# EAGLE library part 690357101072 (library Wuerth_Elektronik_eiCan_MiniModule_Connectors_v1.2)
WR-MM Male Connector with Polarization, 10 Pins
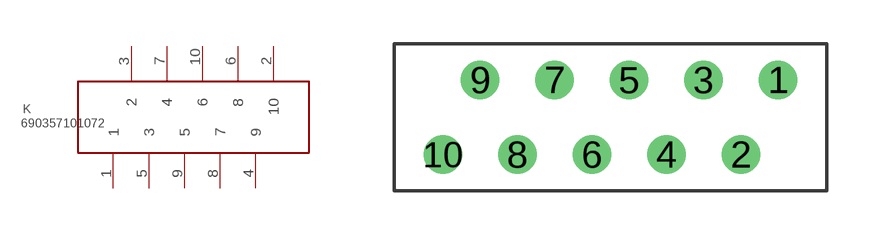
[diagram p56: symbol with the pads of 690357101072; footprint 690357101072]

Designator prefix K

## 690357101072  [690357101072]
1  1  pas
2  10  pas
3  2  pas
4  9  pas
5  3  pas
6  8  pas
7  4  pas
8  7  pas
9  5  pas
10  6  pas

## Footprint 690357101072 (pad centres in mm)
WR-MM Male Connector with Polarization, 10 Pins
drill 0.8 round: 1 7.03,1.27; 2 5.76,-1.27; 3 4.49,1.27; 4 3.22,-1.27; 5 1.95,1.27; 6 0.68,-1.27; 7 -0.59,1.27; 8 -1.86,-1.27; 9 -3.13,1.27; 10 -4.4,-1.27